# Altium schematic symbol library General.SchLib: 30 symbols
Pins are listed as number, name and electrical type; pins without a type are passive.

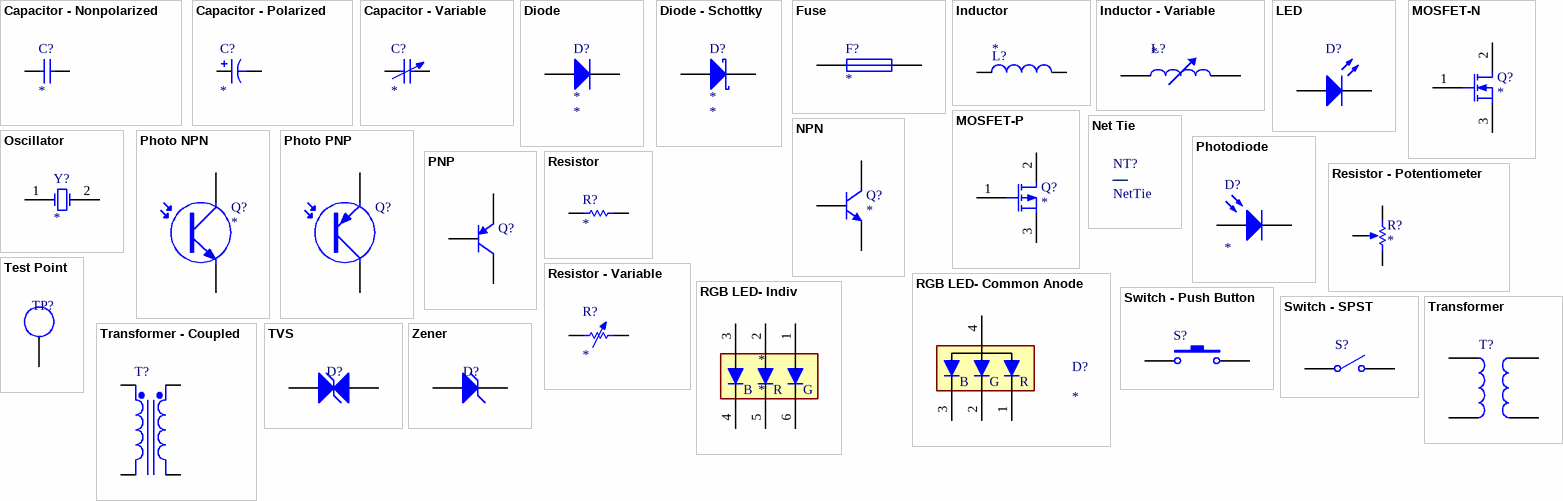
[diagram p0: symbols Capacitor - Nonpolarized to Zener]

## Capacitor - Nonpolarized
designator C?
Nonpolarized Capacitor; Supplier Part Number: *; Supplier: *; Manufacturer: *; Rating: *; Manufacturer Part Number: *; Value: *
simulation model CAP (Capacitor)
signal-integrity model Cap
pins: 1, 2

## Capacitor - Polarized
designator C?
Polarized Capacitor; Supplier: *; Supplier Part Number: *; Rating: *; Manufacturer: *; Manufacturer Part Number: *; Value: *
simulation model CAP (Capacitor)
signal-integrity model Cap Pol
pins: 1, 2
1 alternate drawing of the same symbol

## Capacitor - Variable
designator C?
Variable Capacitor; Supplier Part Number: *; Supplier: *; Manufacturer: *; Manufacturer Part Number: *; Rating: *; Value: *
signal-integrity model Cap Var
pins: 1, 2

## Diode
designator D?
Diode; Rating: *; Supplier Part Number: *; Manufacturer: *; Supplier: *; Value: *; Manufacturer Part Number: *
simulation model DIODE (Diode)
signal-integrity model Diode
pins: 1 A, 2 K

## Diode - Schottky
designator D?
Schottky Rectifier; Rating: *; Supplier Part Number: *; Supplier: *; Manufacturer: *; ComponentLink1Description: Manufacturer Link; ComponentLink1URL: http://www.irf.com/; ComponentLink2Description: Datasheet; ComponentLink2URL: http://www.irf.com/product-info/datasheets/data/10tq.pdf; Value: *; Manufacturer Part Number: *
pins: 1 A, 2 K

## Fuse
designator F?
Fuse; Rating: *; Supplier Part Number: *; Supplier: *; Manufacturer: *; Manufacturer Part Number: *; Value: *
simulation model FUSE (Spice Subcircuit)
pins: 1, 2

## Inductor
designator L?
Inductor; Rating: *; Manufacturer Part Number: *; Supplier Part Number: *; Supplier: *; Manufacturer: *; Value: *
simulation model INDUCTOR (Inductor)
signal-integrity model Inductor
pins: 1, 2

## Inductor - Variable
designator L?
Variable Inductor; Rating: *; Manufacturer: *; Supplier Part Number: *; Manufacturer Part Number: *; Supplier: *; Value: *
simulation model INDUCTOR (Inductor)
signal-integrity model Inductor Adj
pins: 1, 2

## LED
designator D?  (value not drawn)
Light Emitting Diode; Value: *; Manufacturer Part Number: *; Manufacturer: *; Supplier Part Number: *; Rating: *; Supplier: *
simulation model LED0 (Diode)
pins: 1 A, 2 K

## MOSFET-N
designator Q?
N-Channel MOSFET; Supplier: *; Manufacturer Part Number: *; Supplier Part Number: *; Rating: *; Manufacturer: *; Value: *
simulation model NMOS (MOSFET-N)
pins: 1 G, 2 D, 3 S

## MOSFET-P
designator Q?
P-Channel MOSFET; Supplier: *; Manufacturer Part Number: *; Rating: *; Supplier Part Number: *; Manufacturer: *; Value: *
simulation model PMOS (MOSFET-P)
pins: 1 G, 2 D, 3 S

## Net Tie
designator NT?, comment NetTie  (net tie, no BOM)
footprint Net Tie (General Net TIe)
pins: 1, 2

## NPN
designator Q?
NPN Bipolar Transistor; Rating: *; Manufacturer: *; Manufacturer Part Number: *; Supplier: *; Supplier Part Number: *; Value: *
simulation model NPN
signal-integrity model NPN
pins: 1 C, 2 B, 3 E

## Oscillator
designator Y?
Crystal Oscillator; Manufacturer Part Number: *; Manufacturer: *; Supplier Part Number: *; Supplier: *; Rating: *; Value: *
simulation model XTAL (Spice Subcircuit)
pins: 1 OSC1, 2 OSC2

## Photo NPN
designator Q?
NPN Phototransistor; Rating: *; Manufacturer: *; Supplier Part Number: *; Supplier: *; Manufacturer Part Number: *; Value: *
pins: 1 C, 3 E

## Photo PNP
designator Q?  (value not drawn)
PNP Phototransistor; Rating: *; Value: *; Manufacturer: *; Supplier Part Number: *; Supplier: *; Manufacturer Part Number: *
pins: 1 C, 3 E

## Photodiode
designator D?
Photosensitive Diode; Supplier Part Number: *; Rating: *; Manufacturer: *; Supplier: *; Manufacturer Part Number: *; Value: *
pins: 1 A, 2 K

## PNP
designator Q?  (value not drawn)
PNP Bipolar Transistor; Rating: *; Manufacturer Part Number: *; Supplier: *; Supplier Part Number: *; Value: *; Manufacturer: *
footprint SOT-23B_M (SOT23, 3-Leads, Body 2.9x1.3mm, Pitch 0.95mm, Lead Span 2.4mm, IPC Low Density)
simulation model PNP
signal-integrity model PNP
pins: 1 C, 2 B, 3 E

## Resistor
designator R?
Resistor; Rating: *; Manufacturer Part Number: *; Manufacturer: *; Supplier Part Number: *; Supplier: *; Value: *
simulation model RESISTOR (Resistor)
signal-integrity model Res
footprint 0603 - Resistor (0201 Chip Resistor - IPC Medium Density)
pins: 1, 2

## Resistor - Potentiometer
designator R?
Potentiometer; Manufacturer: *; Manufacturer Part Number: *; Supplier Part Number: *; Rating: *; Supplier: *; Value: *
simulation model POT (Potentiometer)
pins: 1 TOP, 2 BOT, 3 TAP
1 alternate drawing of the same symbol

## Resistor - Variable
designator R?
Variable Resistor; Rating: *; Manufacturer: *; Supplier Part Number: *; Manufacturer Part Number: *; Supplier: *; Value: *
simulation model VRES (Variable Resistor)
signal-integrity model Res Adj
pins: 1, 2

## RGB LED- Common Anode
designator D?
RGB LED- Common Anode; Manufacturer Part Number: *; Manufacturer: *; Supplier Part Number: *; Supplier: *
footprint 4-PLCC RGB LED
pins: 1 11, 2 11, 3 11, 4 11
text: B; G; R

## RGB LED- Indiv
designator *
6-pin RGB LED; Manufacturer Part Number: *; Manufacturer: *; Supplier Part Number: *; Supplier: *
footprint RGB-6 (6 Pin RGB)
pins: 1 11, 2 11, 3 11, 4 11, 5, 6
text: B; R; G

## Switch - Push Button
designator S?  (value not drawn)
Push Button Switch; Supplier: *; Manufacturer Part Number: *; Manufacturer: *; Supplier Part Number: *; Rating: *; Value: *
footprint 6x6mm Switch
pins: 1, 2

## Switch - SPST
designator S?  (value not drawn)
Single-Pole, Single-Throw Switch; Supplier: *; Manufacturer: *; Manufacturer Part Number: *; Rating: *; Value: *; Supplier Part Number: *
pins: 1 COMMON, 2 NO

## Test Point
designator TP?  (value not drawn)  (no BOM)
Test Point
pins: 0

## Transformer
designator T?  (value not drawn)
Transformer; Supplier Part Number: *; Manufacturer Part Number: *; Manufacturer: *; Rating: *; Supplier: *; Value: *
simulation model TRANSFORMER (Transformer)
pins: 1, 2, 3, 4

## Transformer - Coupled
designator T?  (value not drawn)
Transformer (Coupled Inductor Model); Supplier Part Number: *; Rating: *; Value: *; Manufacturer: *; Supplier: *; Manufacturer Part Number: *
simulation model TRANSFORMER (Transformer)
pins: 1 Pri+, 2 Pri-, 3 Sec+, 4 Sec-

## TVS
designator D?  (value not drawn)
TVS Diode; Manufacturer Part Number: *; Manufacturer: *; Supplier: *; Supplier Part Number: *; Value: *
pins: 1 A, 2 K

## Zener
designator D?  (value not drawn)
Zener Diode; Manufacturer Part Number: *; Manufacturer: *; Supplier: *; Supplier Part Number: *; Value: *
pins: 1 A, 2 K